# EAGLE library part EC11S (library MAX6818)
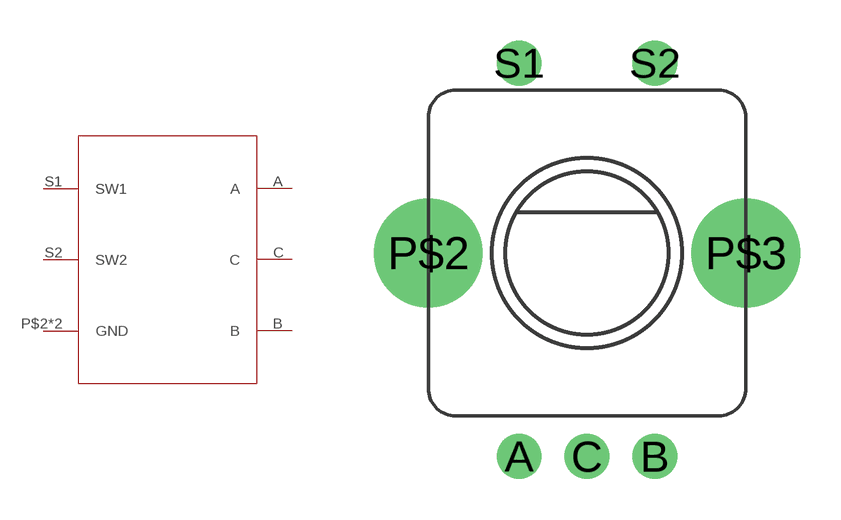
[diagram p1: symbol with the pads of EC11S; footprint EC11S]

Designator prefix -

## EC11S  [EC11S]
A  A
B  B
C  C
P$2  GND
P$3  GND
S1  SW1
S2  SW2

## Footprint EC11S (pad centres in mm)
drill 1.1: A -2.5,-7.5; B 2.5,-7.5; C 0,-7.5; S1 -2.5,7; S2 2.5,7
drill 2.3 pad 4: P$2 -5.85,0; P$3 5.85,0